# EAGLE library part EXTCON12P (library ublox)
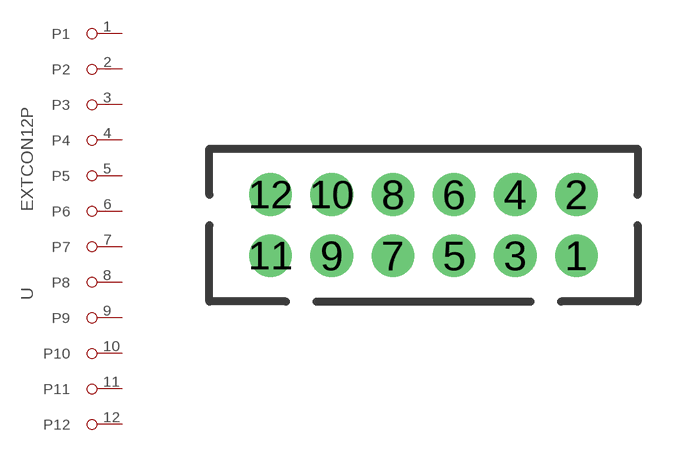
[diagram p4: symbol with the pads of PINH-2MM-12P; footprint PINH-2MM-12P]

Designator prefix -

## EXTCON12P  [PINH-2MM-12P]
1  P1
2  P2
3  P3
4  P4
5  P5
6  P6
7  P7
8  P8
9  P9
10  P10
11  P11
12  P12

## Footprint PINH-2MM-12P (pad centres in mm)
drill 0.889 round: 1 5,-1; 2 5,1; 3 3,-1; 4 3,1; 5 1,-1; 6 1,1; 7 -1,-1; 8 -1,1; 9 -3,-1; 10 -3,1; 11 -5,-1; 12 -5,1